# EAGLE library part TSL1401R (library Ben)
TAOS 128 × 1 LINEAR SENSOR ARRAY
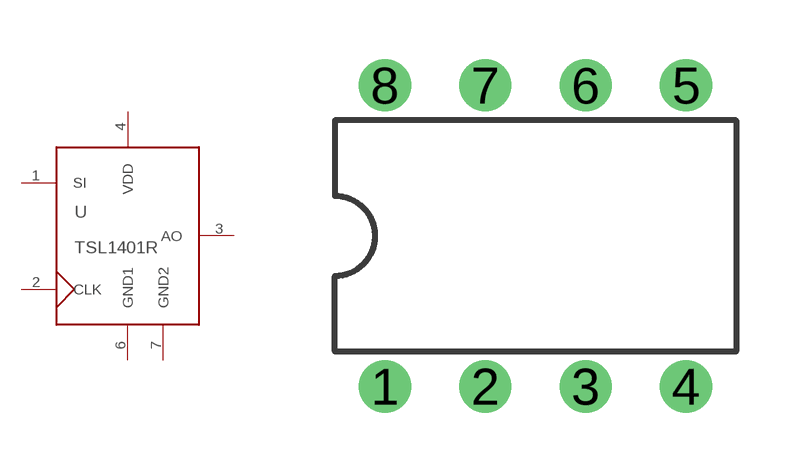
[diagram p1: symbol with the pads of DIL08; footprint DIL08]

Designator prefix U

## TSL1401RDIL08  [DIL08]
1  SI  in
2  CLK  in
3  AO  out
4  VDD  pwr
6  GND1  sup
7  GND2  sup

## Footprint DIL08 (pad centres in mm)
Dual In Line Package
drill 0.813 pad 1.27 round: 1 -3.81,-3.81; 2 -1.27,-3.81; 3 1.27,-3.81; 4 3.81,-3.81; 5 3.81,3.81; 6 1.27,3.81; 7 -1.27,3.81; 8 -3.81,3.81